# Altium footprint library XC6206P182MR.PcbLib: 1 footprints
Each footprint in its own frame and in the unit in brackets; x right, y up, seen from the top. Pads: shape width x height; smd on the part's side, far side on the other; paste and mask are expansions set on the pad; w line width, h text height; cw(c..) or ccw(c..) is an arc to the next point about the centre after c.
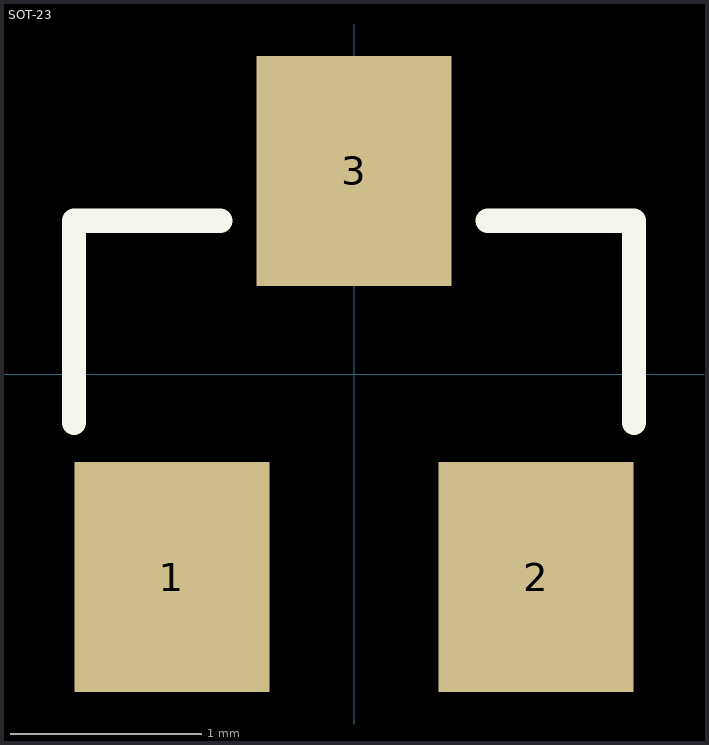
[diagram p0: the footprint, top view; thin cyan lines are the x and y axes]

## SOT-23 [mm]
pads (3):
  rect 1.016x1.2 smd: 1(-0.95,-1.06) 2(0.95,-1.06) 3(0,1.06)
Top Overlay:
  lines w0.127: -1.46,-0.254 -1.46,0.8 -0.699,0.8 ; 0.699,0.8 1.46,0.8 1.46,-0.254